# EAGLE library part ADN4661BRZ (library lib_test)
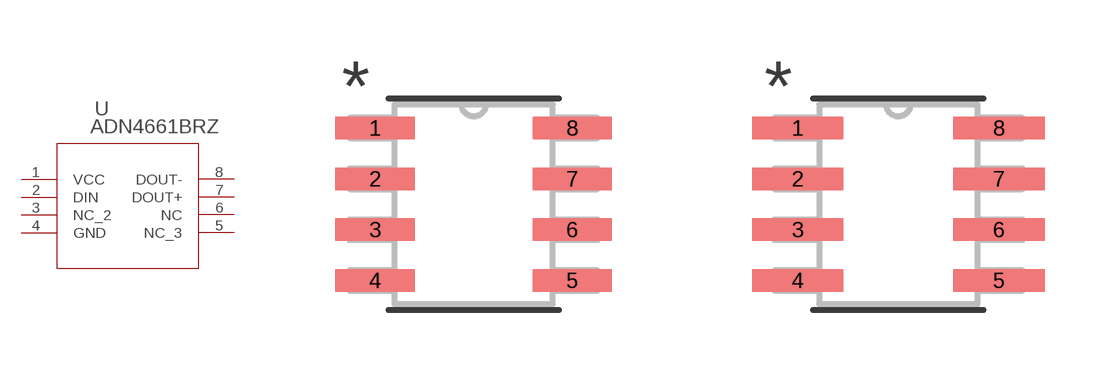
[diagram p4: symbol with the pads of R_8_ADI; footprints R_8_ADI, R_8_ADI-M]

Designator prefix U

## ADN4661BRZ (BUILT_BY: EMA_UL_Team; MANUFACTURER_PART_NUMBER: ADN4661BRZ; SOURCELIBRARY: Analog_2012-01-01_8; VENDOR: Analog Devices Inc)  [R_8_ADI]
1  VCC  pwr
2  DIN  pas
3  NC_2  pas
4  GND  pas
5  NC_3  pas
6  NC  pas
7  DOUT+  pas
8  DOUT-  pas

## ADN4661BRZR_8_ADI-M (BUILT_BY: EMA_UL_Team; MANUFACTURER_PART_NUMBER: ADN4661BRZ; SOURCELIBRARY: Analog_2012-01-01_8; VENDOR: Analog Devices Inc)  [R_8_ADI-M]
Pads as for R_8_ADI

## ADN4661BRZR_8_ADI-L (BUILT_BY: EMA_UL_Team; MANUFACTURER_PART_NUMBER: ADN4661BRZ; SOURCELIBRARY: Analog_2012-01-01_8; VENDOR: Analog Devices Inc)  [R_8_ADI-L]
Pads as for R_8_ADI

## Footprint R_8_ADI (pad centres in mm)
smd 1.981 x 0.559: 1 -2.464,1.905; 2 -2.464,0.635; 3 -2.464,-0.635; 4 -2.464,-1.905; 5 2.464,-1.905; 6 2.464,-0.635; 7 2.464,0.635; 8 2.464,1.905

## Footprint R_8_ADI-M (pad centres in mm)
smd 2.286 x 0.559: 1 -2.515,1.905; 2 -2.515,0.635; 3 -2.515,-0.635; 4 -2.515,-1.905; 5 2.515,-1.905; 6 2.515,-0.635; 7 2.515,0.635; 8 2.515,1.905

## Footprint R_8_ADI-L (pad centres in mm)
smd 1.676 x 0.508: 1 -2.413,1.905; 2 -2.413,0.635; 3 -2.413,-0.635; 4 -2.413,-1.905; 5 2.413,-1.905; 6 2.413,-0.635; 7 2.413,0.635; 8 2.413,1.905